# EAGLE library part 1X18-MALE-RECEPTACLE-LEFT (library DSX_Library)
Check prices <https://pricing.snapeda.com/parts/TBP01R1-508-18BE/CUI%20Devices/view-part?ref=eda>
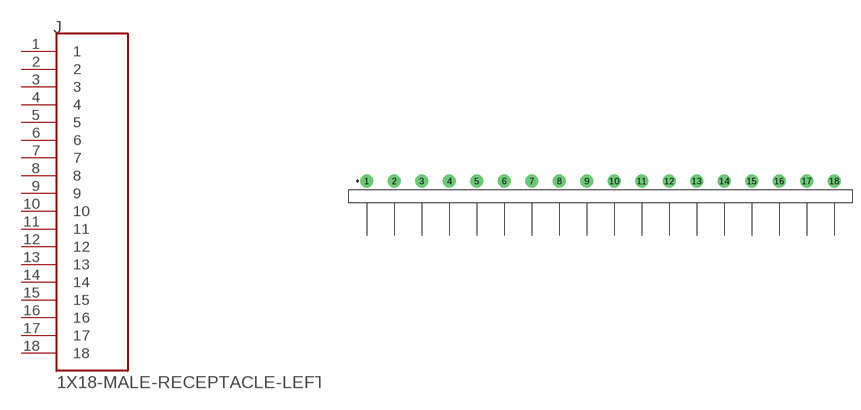
[diagram p8: symbol with the pads of HDRRA18W100P504_1X18_9232X254X556B; footprint HDRRA18W100P504_1X18_9232X254X556B]

Designator prefix J

## 1X18-MALE-RECEPTACLE-LEFT1X18LREC  [HDRRA18W100P504_1X18_9232X254X556B]
1  1  pas
2  2  pas
3  3  pas
4  4  pas
5  5  pas
6  6  pas
7  7  pas
8  8  pas
9  9  pas
10  10  pas
11  11  pas
12  12  pas
13  13  pas
14  14  pas
15  15  pas
16  16  pas
17  17  pas
18  18  pas

## Footprint HDRRA18W100P504_1X18_9232X254X556B (pad centres in mm)
Single-row, 18-pin Pin Header (Male) Right Angle, 5.04 mm (0.20 in) col pitch, 5.84 mm mating length, 92.32 X 2.54 X 5.56 mm body Single-row (1X18), 18-pin Pin Header (Male) Right Angle package with 5.04 mm (0.20 in) col pitch, 1.00 mm lead width, 3.00 mm tail length and 5.84 mm mating length with body size 92.32 X 2.54 X 5.56 mm, pin pattern - clockwise from top left
drill 1.614 pad 2.421: 1 0,0; 2 5.04,0; 3 10.08,0; 4 15.12,0; 5 20.16,0; 6 25.2,0; 7 30.24,0; 8 35.28,0; 9 40.32,0; 10 45.36,0; 11 50.4,0; 12 55.44,0; 13 60.48,0; 14 65.52,0; 15 70.56,0; 16 75.6,0; 17 80.64,0; 18 85.68,0